# EAGLE library part MEM2080-00-128-00-A_REVA (library apu-csk-motherboard)
Check availability <https://pricing.snapeda.com/parts/MEM2080-00-128-00-A/Global%20Connector%20Technology/view-part?ref=eda>
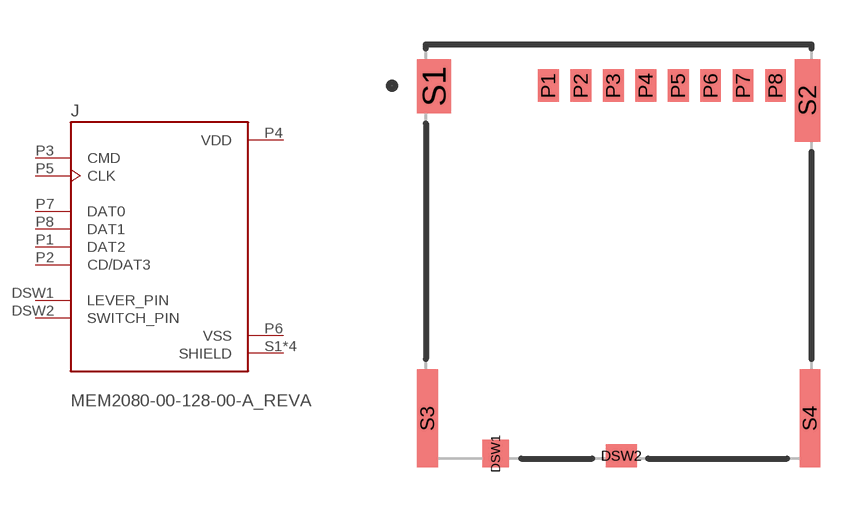
[diagram p10: symbol with the pads of GCT_MEM2080-00-128-00-A_REVA; footprint GCT_MEM2080-00-128-00-A_REVA]

Designator prefix J

## MEM2080-00-128-00-A_REVA (AVAILABILITY: In Stock; DESCRIPTION: 9 (8 + 1) Position Card Connector Secure Digital - microSD™ Surface Mount, Right Angle Gold; MF: Global Connector Technology; MP: MEM2080-00-128-00-A; PACKAGE: None; PRICE: None; PURCHASE-URL: https://pricing.snapeda.com/search/part/MEM2080-00-128-00-A/?ref=eda)  [GCT_MEM2080-00-128-00-A_REVA]
DSW1  LEVER_PIN  pas
DSW2  SWITCH_PIN  pas
P1  DAT2
P2  CD/DAT3
P3  CMD  in
P4  VDD  pwr
P5  CLK  in
P6  VSS  pwr
P7  DAT0
P8  DAT1
S1  SHIELD  pas
S2  SHIELD  pas
S3  SHIELD  pas
S4  SHIELD  pas

## Footprint GCT_MEM2080-00-128-00-A_REVA (pad centres in mm)
smd 0.9 x 0.93: DSW1 -4.17,-6.85
smd 1.05 x 0.78: DSW2 0.095,-6.925
smd 0.7 x 1.1: P1 -2.38,5.615; P2 -1.28,5.615; P3 -0.18,5.615; P4 0.92,5.615; P5 2.02,5.615; P6 3.12,5.615; P7 4.22,5.615; P8 5.32,5.615
smd 1.14 x 1.83: S1 -6.26,5.6
smd 0.86 x 2.8: S2 6.4,5.115
smd 0.7 x 3.33: S3 -6.48,-5.65; S4 6.48,-5.65